# Altium footprint library spin5v1_simple.PcbLib: 34 footprints (part 1 of 4)
Each footprint in its own frame and in the unit in brackets; x right, y up, seen from the top. Pads: shape width x height; smd on the part's side, far side on the other; paste and mask are expansions set on the pad; w line width, h text height; cw(c..) or ccw(c..) is an arc to the next point about the centre after c.
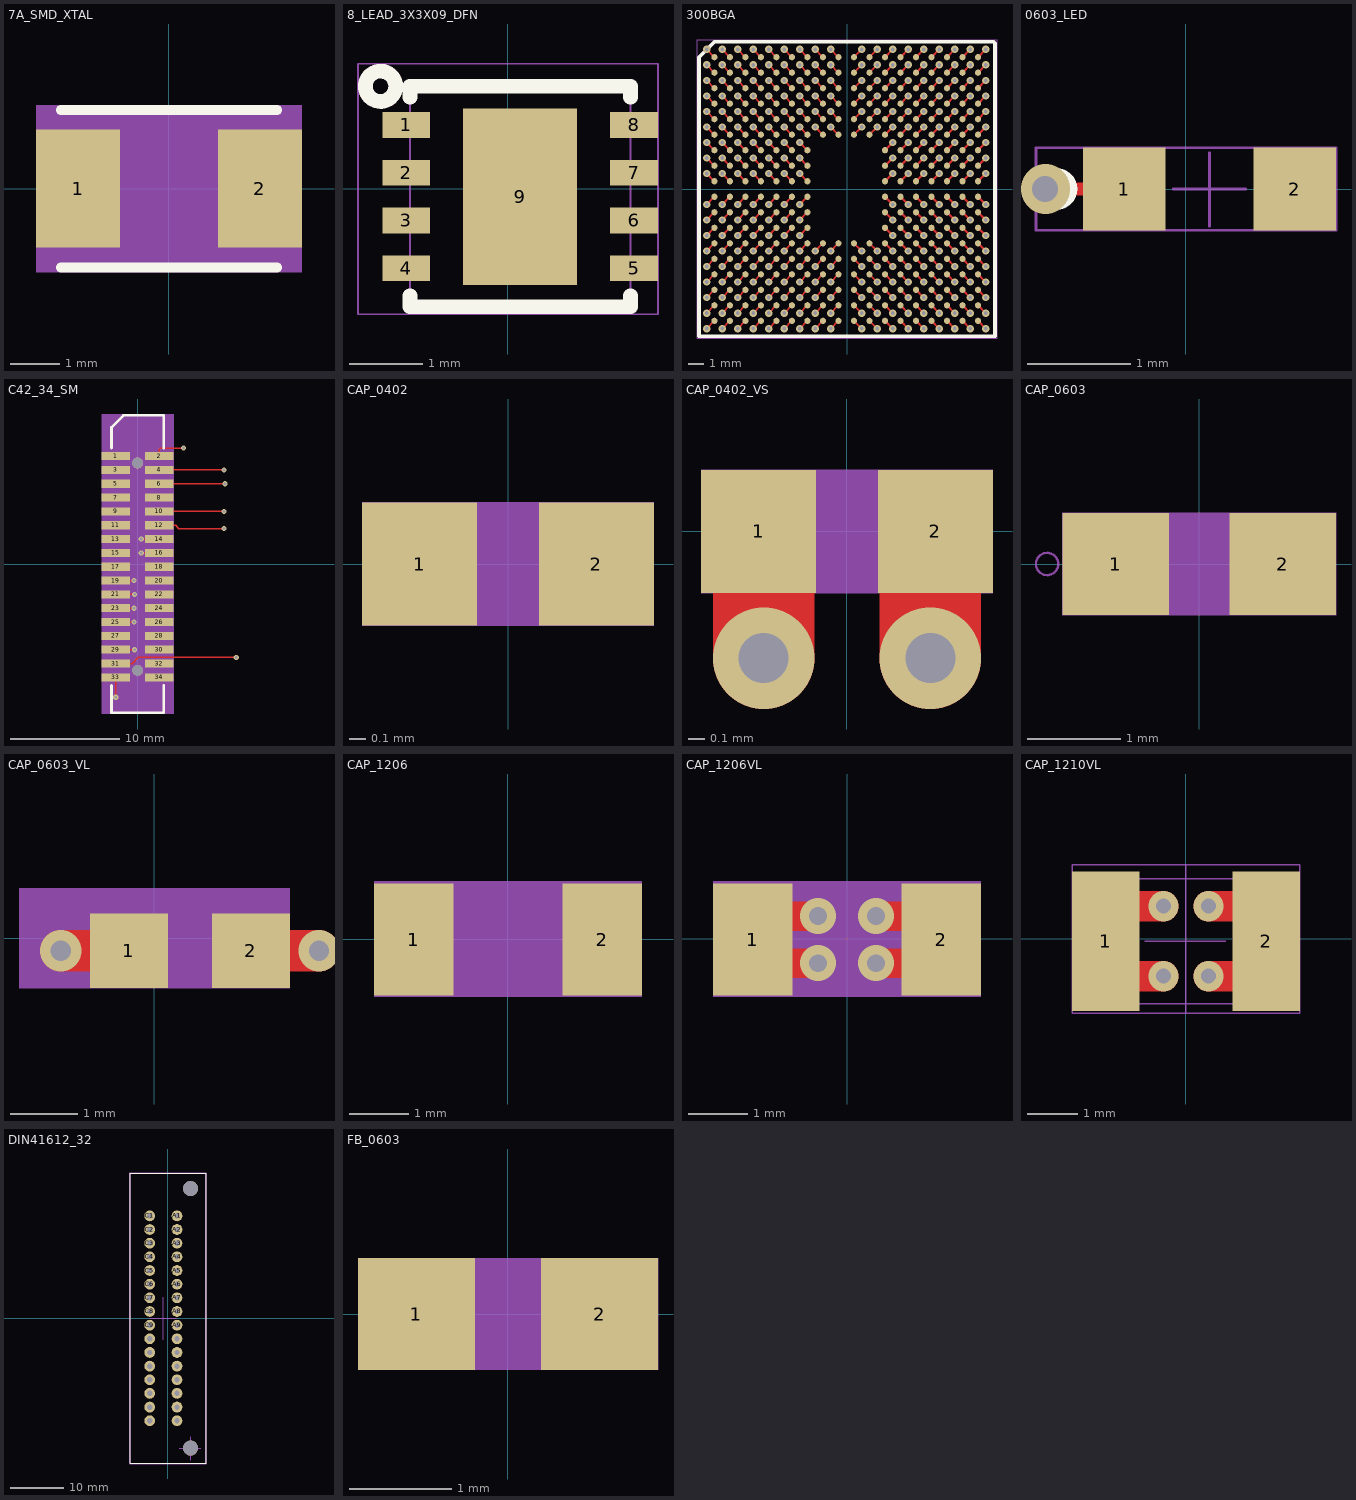
[diagram p0: the footprints below, top view; thin cyan lines are the x and y axes]

## 7A_SMD_XTAL [mm] "7A_SMD_XTAL"
pads (2):
  rect 1.7x2.4 smd: 1(-1.85,0) 2(1.85,0)
Top Overlay:
  lines w0.2: -2.2,-1.6 2.2,-1.6 ; -2.2,1.6 2.2,1.6
Mechanical 9:
  text "1" at -0.65,-0.64 h0.8
  text "2" at 0.8,-0.64 h0.8
Mechanical 13:
  lines w0.025: -0.88,0 0.84,0 ; 0,-0.72 0,0.83 ; -2.5,-1.399 cw(c-2.488,-1.588) -2.299,-1.6 2.3,-1.6 cw(c2.488,-1.588) 2.5,-1.399 2.5,1.4 cw(c2.482,1.582) 2.3,1.6 -2.3,1.6 cw(c-2.474,1.574) -2.5,1.4 -2.5,-1.4
  text ".Designator" at -0.5,0 h0.8
Mechanical 14:
  region: -2.7,-1.7 2.7,-1.7 2.7,1.7 -2.7,1.7
3D body: height 0.91, standoff -0.01, extent -1.6,-1.25 1.6,1.25

## 8_LEAD_3X3X09_DFN [mm] "8_LEAD_3X3X09_DFN"
pads (9):
  rect 0.65x0.35 smd: 1(-1.384,0.872) 2(-1.384,0.222) 3(-1.384,-0.428) 4(-1.384,-1.078) 5(1.716,-1.078) 6(1.716,-0.428) 7(1.716,0.222) 8(1.716,0.872)
  rect 1.55x2.4 smd: 9(0.166,-0.103)
Top Overlay:
  circle w0.2: c-1.734,1.397 r0.206
  lines w0.2: -1.334,-1.453 -1.334,-1.603 1.666,-1.603 1.666,-1.453 ; -1.334,1.247 -1.334,1.397 1.666,1.397 1.666,1.247
  text ".Designator" at 2.666,1.397 h1.6
Mechanical 9:
  text "7" at 2.303,0.422 h0.64
  text "8" at 2.283,1.082 h0.64
  text "3" at -2.337,-0.223 h0.64
  text "6" at 2.303,-0.243 h0.64
  text "5" at 2.313,-0.863 h0.64
  text "2" at -2.342,0.437 h0.64
  text "1" at -2.342,1.062 h0.64
  text "4" at -2.332,-0.878 h0.64
  text "9" at -0.342,-1.373 h0.64
Mechanical 13:
  circle w0.025: c-1.734,1.397 r0.292
  lines w0.025: -1.334,-1.603 1.666,-1.603 1.666,1.397 -1.334,1.397 -1.334,-1.603
Mechanical 14:
  lines w0.025: -2.04,-1.703 2.041,-1.703 2.041,1.703 -2.04,1.703 -2.04,-1.703
3D body: height 0.8, standoff 0, extent -1.27,-1.651 1.75,1.349

## 300BGA [mm] "300BGA"
pads (300):
  round 0.4 smd: A1(-8.55,8.5) A2(-7.55,8.5) A3(-6.55,8.5) A4(-5.55,8.5) A5(-4.55,8.5) A6(-3.55,8.5) A7(-2.55,8.5) A8(-1.55,8.5) A9(-0.55,8.5) A10(0.45,8.5) A11(1.45,8.5) A12(2.45,8.5) A13(3.45,8.5) A14(4.45,8.5) A15(5.45,8.5) A16(6.45,8.5) A17(7.45,8.5) A18(8.45,8.5) B1(-8.55,7.5) B2(-7.55,7.5) B3(-6.55,7.5) B4(-5.55,7.5) B5(-4.55,7.5) B6(-3.55,7.5) B7(-2.55,7.5) B8(-1.55,7.5) B9(-0.55,7.5) B10(0.45,7.5) B11(1.45,7.5) B12(2.45,7.5) B13(3.45,7.5) B14(4.45,7.5) B15(5.45,7.5) B16(6.45,7.5) B17(7.45,7.5) B18(8.45,7.5) C1(-8.55,6.5) C2(-7.55,6.5) C3(-6.55,6.5) C4(-5.55,6.5) C5(-4.55,6.5) C6(-3.55,6.5) C7(-2.55,6.5) C8(-1.55,6.5) C9(-0.55,6.5) C10(0.45,6.5) C11(1.45,6.5) C12(2.45,6.5) C13(3.45,6.5) C14(4.45,6.5) C15(5.45,6.5) C16(6.45,6.5) C17(7.45,6.5) C18(8.45,6.5) D1(-8.55,5.5) D2(-7.55,5.5) D3(-6.55,5.5) D4(-5.55,5.5) D5(-4.55,5.5) D6(-3.55,5.5) D7(-2.55,5.5) D8(-1.55,5.5) D9(-0.55,5.5) D10(0.45,5.5) D11(1.45,5.5) D12(2.45,5.5) D13(3.45,5.5) D14(4.45,5.5) D15(5.45,5.5) D16(6.45,5.5) D17(7.45,5.5) D18(8.45,5.5) E1(-8.55,4.5) E2(-7.55,4.5) E3(-6.55,4.5) E4(-5.55,4.5) E5(-4.55,4.5) E6(-3.55,4.5) E7(-2.55,4.5) E8(-1.55,4.5) E9(-0.55,4.5) E10(0.45,4.5) E11(1.45,4.5) E12(2.45,4.5) E13(3.45,4.5) E14(4.45,4.5) E15(5.45,4.5) E16(6.45,4.5) E17(7.45,4.5) E18(8.45,4.5) F1(-8.55,3.5) F2(-7.55,3.5) F3(-6.55,3.5) F4(-5.55,3.5) F5(-4.55,3.5) F6(-3.55,3.5) F7(-2.55,3.5) F8(-1.55,3.5) F9(-0.55,3.5) F10(0.45,3.5) F11(1.45,3.5) F12(2.45,3.5) F13(3.45,3.5) F14(4.45,3.5) F15(5.45,3.5) F16(6.45,3.5) F17(7.45,3.5) F18(8.45,3.5) G1(-8.55,2.5) G2(-7.55,2.5) G3(-6.55,2.5) G4(-5.55,2.5) G5(-4.55,2.5) G6(-3.55,2.5) G7(-2.55,2.5) G12(2.45,2.5) G13(3.45,2.5) G14(4.45,2.5) G15(5.45,2.5) G16(6.45,2.5) G17(7.45,2.5) G18(8.45,2.5) H1(-8.55,1.5) H2(-7.55,1.5) H3(-6.55,1.5) H4(-5.55,1.5) H5(-4.55,1.5) H6(-3.55,1.5) H7(-2.55,1.5) H12(2.45,1.5) H13(3.45,1.5) H14(4.45,1.5) H15(5.45,1.5) H16(6.45,1.5) H17(7.45,1.5) H18(8.45,1.5) J1(-8.55,0.5) J2(-7.55,0.5) J3(-6.55,0.5) J4(-5.55,0.5) J5(-4.55,0.5) J6(-3.55,0.5) J7(-2.55,0.5) J12(2.45,0.5) J13(3.45,0.5) J14(4.45,0.5) J15(5.45,0.5) J16(6.45,0.5) J17(7.45,0.5) J18(8.45,0.5) K1(-8.55,-0.5) K2(-7.55,-0.5) K3(-6.55,-0.5) K4(-5.55,-0.5) K5(-4.55,-0.5) K6(-3.55,-0.5) K7(-2.55,-0.5) K12(2.45,-0.5) K13(3.45,-0.5) K14(4.45,-0.5) K15(5.45,-0.5) K16(6.45,-0.5) K17(7.45,-0.5) K18(8.45,-0.5) L1(-8.55,-1.5) L2(-7.55,-1.5) L3(-6.55,-1.5) L4(-5.55,-1.5) L5(-4.55,-1.5) L6(-3.55,-1.5) L7(-2.55,-1.5) L12(2.45,-1.5) L13(3.45,-1.5) L14(4.45,-1.5) L15(5.45,-1.5) L16(6.45,-1.5) L17(7.45,-1.5) L18(8.45,-1.5) M1(-8.55,-2.5) M2(-7.55,-2.5) M3(-6.55,-2.5) M4(-5.55,-2.5) M5(-4.55,-2.5) M6(-3.55,-2.5) M7(-2.55,-2.5) M12(2.45,-2.5) M13(3.45,-2.5) M14(4.45,-2.5) M15(5.45,-2.5) M16(6.45,-2.5) M17(7.45,-2.5) M18(8.45,-2.5) N1(-8.55,-3.5) N2(-7.55,-3.5) N3(-6.55,-3.5) N4(-5.55,-3.5) N5(-4.55,-3.5) N6(-3.55,-3.5) N7(-2.55,-3.5) N8(-1.55,-3.5) N9(-0.55,-3.5) N10(0.45,-3.5) N11(1.45,-3.5) N12(2.45,-3.5) N13(3.45,-3.5) N14(4.45,-3.5) N15(5.45,-3.5) N16(6.45,-3.5) N17(7.45,-3.5) N18(8.45,-3.5) P1(-8.55,-4.5) P2(-7.55,-4.5) P3(-6.55,-4.5) P4(-5.55,-4.5) P5(-4.55,-4.5) P6(-3.55,-4.5) P7(-2.55,-4.5) P8(-1.55,-4.5) P9(-0.55,-4.5) P10(0.45,-4.5) P11(1.45,-4.5) P12(2.45,-4.5) P13(3.45,-4.5) P14(4.45,-4.5) P15(5.45,-4.5) P16(6.45,-4.5) P17(7.45,-4.5) P18(8.45,-4.5) R1(-8.55,-5.5) R2(-7.55,-5.5) R3(-6.55,-5.5) R4(-5.55,-5.5) R5(-4.55,-5.5) R6(-3.55,-5.5) R7(-2.55,-5.5) R8(-1.55,-5.5) R9(-0.55,-5.5) R10(0.45,-5.5) R11(1.45,-5.5) R12(2.45,-5.5) R13(3.45,-5.5) R14(4.45,-5.5) R15(5.45,-5.5) R16(6.45,-5.5) R17(7.45,-5.5) R18(8.45,-5.5) T1(-8.55,-6.5) T2(-7.55,-6.5) T3(-6.55,-6.5) T4(-5.55,-6.5) T5(-4.55,-6.5) T6(-3.55,-6.5) T7(-2.55,-6.5) T8(-1.55,-6.5) T9(-0.55,-6.5) T10(0.45,-6.5) T11(1.45,-6.5) T12(2.45,-6.5) T13(3.45,-6.5) T14(4.45,-6.5) T15(5.45,-6.5) T16(6.45,-6.5) T17(7.45,-6.5) T18(8.45,-6.5) U1(-8.55,-7.5) U2(-7.55,-7.5) U3(-6.55,-7.5) U4(-5.55,-7.5) U5(-4.55,-7.5) U6(-3.55,-7.5) U7(-2.55,-7.5) U8(-1.55,-7.5) U9(-0.55,-7.5) U10(0.45,-7.5) U11(1.45,-7.5) U12(2.45,-7.5) U13(3.45,-7.5) U14(4.45,-7.5) U15(5.45,-7.5) U16(6.45,-7.5) U17(7.45,-7.5) U18(8.45,-7.5) V1(-8.55,-8.5) V2(-7.55,-8.5) V3(-6.55,-8.5) V4(-5.55,-8.5) V5(-4.55,-8.5) V6(-3.55,-8.5) V7(-2.55,-8.5) V8(-1.55,-8.5) V9(-0.55,-8.5) V10(0.45,-8.5) V11(1.45,-8.5) V12(2.45,-8.5) V13(3.45,-8.5) V14(4.45,-8.5) V15(5.45,-8.5) V16(6.45,-8.5) V17(7.45,-8.5) V18(8.45,-8.5)
via -8.05,-1 diameter 0.48 hole 0.25
via -7.05,2 diameter 0.48 hole 0.25
via -7.05,-1 diameter 0.48 hole 0.25
via -6.05,2 diameter 0.48 hole 0.25
via -9.05,-1 diameter 0.48 hole 0.25
via -6.05,-2 diameter 0.48 hole 0.25
via -7.05,3 diameter 0.48 hole 0.25
via -7.05,-2 diameter 0.48 hole 0.25
via -6.05,3 diameter 0.48 hole 0.25
via -8.05,-2 diameter 0.48 hole 0.25
via -9.05,2 diameter 0.48 hole 0.25
via -9.05,-2 diameter 0.48 hole 0.25
via -8.05,2 diameter 0.48 hole 0.25
via -6.05,-1 diameter 0.48 hole 0.25
via -8.05,3 diameter 0.48 hole 0.25
via -9.05,3 diameter 0.48 hole 0.25
via -8.05,-3 diameter 0.48 hole 0.25
via -8.05,1 diameter 0.48 hole 0.25
via -9.05,1 diameter 0.48 hole 0.25
via -6.05,-3 diameter 0.48 hole 0.25
via -7.05,1 diameter 0.48 hole 0.25
via -6.05,1 diameter 0.48 hole 0.25
via -8.05,6 diameter 0.48 hole 0.25
via -6.05,4 diameter 0.48 hole 0.25
via -9.05,-4 diameter 0.48 hole 0.25
via -7.05,-6 diameter 0.48 hole 0.25
via -9.05,9 diameter 0.48 hole 0.25
via -9.05,5 diameter 0.48 hole 0.25
via -8.05,5 diameter 0.48 hole 0.25
via -7.05,5 diameter 0.48 hole 0.25
via -6.05,5 diameter 0.48 hole 0.25
via -9.05,4 diameter 0.48 hole 0.25
via -8.05,4 diameter 0.48 hole 0.25
via -7.05,-4 diameter 0.48 hole 0.25
via -6.05,-4 diameter 0.48 hole 0.25
via -9.05,-5 diameter 0.48 hole 0.25
via -8.05,-5 diameter 0.48 hole 0.25
via -8.05,9 diameter 0.48 hole 0.25
via -7.05,-5 diameter 0.48 hole 0.25
via -6.05,-5 diameter 0.48 hole 0.25
via -9.05,-6 diameter 0.48 hole 0.25
via -8.05,-6 diameter 0.48 hole 0.25
via -9.05,-7 diameter 0.48 hole 0.25
via -8.05,-7 diameter 0.48 hole 0.25
via -7.05,-7 diameter 0.48 hole 0.25
via -9.05,-8 diameter 0.48 hole 0.25
via -8.05,-8 diameter 0.48 hole 0.25
via -7.05,-8 diameter 0.48 hole 0.25
via -9.05,8 diameter 0.48 hole 0.25
via -9.05,-9 diameter 0.48 hole 0.25
via -8.05,-9 diameter 0.48 hole 0.25
via -8.05,8 diameter 0.48 hole 0.25
via -7.05,8 diameter 0.48 hole 0.25
via -9.05,7 diameter 0.48 hole 0.25
via -8.05,7 diameter 0.48 hole 0.25
via -7.05,7 diameter 0.48 hole 0.25
via -7.05,6 diameter 0.48 hole 0.25
via -6.05,6 diameter 0.48 hole 0.25
via -9.05,6 diameter 0.48 hole 0.25
via -7.05,4 diameter 0.48 hole 0.25
via -8.05,-4 diameter 0.48 hole 0.25
via -6.05,-6 diameter 0.48 hole 0.25
via -9.05,-3 diameter 0.48 hole 0.25
via -7.05,-3 diameter 0.48 hole 0.25
via 6.95,-8 diameter 0.48 hole 0.25
via 7.95,-9 diameter 0.48 hole 0.25
via 5.95,6 diameter 0.48 hole 0.25
via 5.95,5 diameter 0.48 hole 0.25
via 5.95,4 diameter 0.48 hole 0.25
via 5.95,1 diameter 0.48 hole 0.25
via 5.95,-5 diameter 0.48 hole 0.25
via 5.95,-6 diameter 0.48 hole 0.25
via 8.95,3 diameter 0.48 hole 0.25
via 5.95,-3 diameter 0.48 hole 0.25
via 7.95,3 diameter 0.48 hole 0.25
via 5.95,3 diameter 0.48 hole 0.25
via -4.05,2 diameter 0.48 hole 0.25
via -4.05,-1 diameter 0.48 hole 0.25
via -4.05,-3 diameter 0.48 hole 0.25
via -4.05,-4 diameter 0.48 hole 0.25
via 0.95,-4 diameter 0.48 hole 0.25
via 0.95,-5 diameter 0.48 hole 0.25
via -2.05,-5 diameter 0.48 hole 0.25
via -2.05,-4 diameter 0.48 hole 0.25
via -3.05,-5 diameter 0.48 hole 0.25
via -3.05,-4 diameter 0.48 hole 0.25
via -3.05,2 diameter 0.48 hole 0.25
via -5.05,2 diameter 0.48 hole 0.25
via -3.05,-1 diameter 0.48 hole 0.25
via -5.05,-1 diameter 0.48 hole 0.25
via -3.05,-3 diameter 0.48 hole 0.25
via -5.05,-3 diameter 0.48 hole 0.25
via -5.05,-4 diameter 0.48 hole 0.25
via -5.05,-5 diameter 0.48 hole 0.25
via 3.95,5 diameter 0.48 hole 0.25
via 2.95,5 diameter 0.48 hole 0.25
via 2.95,4 diameter 0.48 hole 0.25
via 1.95,5 diameter 0.48 hole 0.25
via 1.95,4 diameter 0.48 hole 0.25
via -1.05,4 diameter 0.48 hole 0.25
via -1.05,5 diameter 0.48 hole 0.25
via 4.95,5 diameter 0.48 hole 0.25
via 4.95,4 diameter 0.48 hole 0.25
via 3.95,4 diameter 0.48 hole 0.25
via 4.95,3 diameter 0.48 hole 0.25
via 3.95,3 diameter 0.48 hole 0.25
via 2.95,3 diameter 0.48 hole 0.25
via 8.95,2 diameter 0.48 hole 0.25
via 7.95,2 diameter 0.48 hole 0.25
via 4.95,1 diameter 0.48 hole 0.25
via 3.95,1 diameter 0.48 hole 0.25
via 2.95,1 diameter 0.48 hole 0.25
via 8.95,-2 diameter 0.48 hole 0.25
via 7.95,-2 diameter 0.48 hole 0.25
via 4.95,-2 diameter 0.48 hole 0.25
via 3.95,-2 diameter 0.48 hole 0.25
via 2.95,-2 diameter 0.48 hole 0.25
via 7.95,5 diameter 0.48 hole 0.25
via 6.95,5 diameter 0.48 hole 0.25
via 8.95,6 diameter 0.48 hole 0.25
via 7.95,6 diameter 0.48 hole 0.25
via 8.95,4 diameter 0.48 hole 0.25
via 7.95,4 diameter 0.48 hole 0.25
via 5.95,2 diameter 0.48 hole 0.25
via 6.95,2 diameter 0.48 hole 0.25
via 7.95,8 diameter 0.48 hole 0.25
via 1.95,-6 diameter 0.48 hole 0.25
via -2.05,-8 diameter 0.48 hole 0.25
via -2.05,-7 diameter 0.48 hole 0.25
via -2.05,-6 diameter 0.48 hole 0.25
via -1.05,-9 diameter 0.48 hole 0.25
via -1.05,-8 diameter 0.48 hole 0.25
via -1.05,-7 diameter 0.48 hole 0.25
via 0.95,-9 diameter 0.48 hole 0.25
via 0.95,-8 diameter 0.48 hole 0.25
via 0.95,-7 diameter 0.48 hole 0.25
via 0.95,-6 diameter 0.48 hole 0.25
via 1.95,-9 diameter 0.48 hole 0.25
via 1.95,-8 diameter 0.48 hole 0.25
via 1.95,-7 diameter 0.48 hole 0.25
via -1.05,-6 diameter 0.48 hole 0.25
via -2.05,-9 diameter 0.48 hole 0.25
via 6.95,-9 diameter 0.48 hole 0.25
via 2.95,-8 diameter 0.48 hole 0.25
via 2.95,-7 diameter 0.48 hole 0.25
via 2.95,-6 diameter 0.48 hole 0.25
via 3.95,-9 diameter 0.48 hole 0.25
via 3.95,-8 diameter 0.48 hole 0.25
via 3.95,-7 diameter 0.48 hole 0.25
via 4.95,-9 diameter 0.48 hole 0.25
via 4.95,-8 diameter 0.48 hole 0.25
via 4.95,-7 diameter 0.48 hole 0.25
via 4.95,-6 diameter 0.48 hole 0.25
via 5.95,-9 diameter 0.48 hole 0.25
via 5.95,-8 diameter 0.48 hole 0.25
via 5.95,-7 diameter 0.48 hole 0.25
via 3.95,-6 diameter 0.48 hole 0.25
via 2.95,-9 diameter 0.48 hole 0.25
via 6.95,-6 diameter 0.48 hole 0.25
via 8.95,-6 diameter 0.48 hole 0.25
via 6.95,-7 diameter 0.48 hole 0.25
via 7.95,-7 diameter 0.48 hole 0.25
via 8.95,-7 diameter 0.48 hole 0.25
via 7.95,-8 diameter 0.48 hole 0.25
via 8.95,-8 diameter 0.48 hole 0.25
via 5.95,-4 diameter 0.48 hole 0.25
via 6.95,-4 diameter 0.48 hole 0.25
via 7.95,-4 diameter 0.48 hole 0.25
via 8.95,-4 diameter 0.48 hole 0.25
via 6.95,-5 diameter 0.48 hole 0.25
via 7.95,-5 diameter 0.48 hole 0.25
via 8.95,-5 diameter 0.48 hole 0.25
via 8.95,-9 diameter 0.48 hole 0.25
via 7.95,-6 diameter 0.48 hole 0.25
via 1.95,6 diameter 0.48 hole 0.25
via -2.05,8 diameter 0.48 hole 0.25
via -2.05,7 diameter 0.48 hole 0.25
via -2.05,6 diameter 0.48 hole 0.25
via -1.05,9 diameter 0.48 hole 0.25
via -1.05,8 diameter 0.48 hole 0.25
via -1.05,7 diameter 0.48 hole 0.25
via 0.95,9 diameter 0.48 hole 0.25
via 0.95,8 diameter 0.48 hole 0.25
via 0.95,7 diameter 0.48 hole 0.25
via 0.95,6 diameter 0.48 hole 0.25
via 1.95,9 diameter 0.48 hole 0.25
via 1.95,8 diameter 0.48 hole 0.25
via 1.95,7 diameter 0.48 hole 0.25
via -1.05,6 diameter 0.48 hole 0.25
via -2.05,9 diameter 0.48 hole 0.25
via -3.05,6 diameter 0.48 hole 0.25
via -6.05,9 diameter 0.48 hole 0.25
via -6.05,8 diameter 0.48 hole 0.25
via -6.05,7 diameter 0.48 hole 0.25
via -5.05,9 diameter 0.48 hole 0.25
via -5.05,8 diameter 0.48 hole 0.25
via -5.05,7 diameter 0.48 hole 0.25
via -4.05,9 diameter 0.48 hole 0.25
via -4.05,8 diameter 0.48 hole 0.25
via -4.05,7 diameter 0.48 hole 0.25
via -4.05,6 diameter 0.48 hole 0.25
via -3.05,9 diameter 0.48 hole 0.25
via -3.05,8 diameter 0.48 hole 0.25
via -3.05,7 diameter 0.48 hole 0.25
via -5.05,6 diameter 0.48 hole 0.25
via -7.05,9 diameter 0.48 hole 0.25
via -5.05,-6 diameter 0.48 hole 0.25
via -4.05,-8 diameter 0.48 hole 0.25
via -4.05,-7 diameter 0.48 hole 0.25
via -4.05,-6 diameter 0.48 hole 0.25
via -3.05,-9 diameter 0.48 hole 0.25
via -3.05,-8 diameter 0.48 hole 0.25
via -3.05,-7 diameter 0.48 hole 0.25
via -7.05,-9 diameter 0.48 hole 0.25
via -6.05,-9 diameter 0.48 hole 0.25
via -6.05,-8 diameter 0.48 hole 0.25
via -6.05,-7 diameter 0.48 hole 0.25
via -5.05,-9 diameter 0.48 hole 0.25
via -5.05,-8 diameter 0.48 hole 0.25
via -5.05,-7 diameter 0.48 hole 0.25
via -3.05,-6 diameter 0.48 hole 0.25
via -4.05,-9 diameter 0.48 hole 0.25
via 3.95,7 diameter 0.48 hole 0.25
via -4.05,1 diameter 0.48 hole 0.25
via -1.05,-5 diameter 0.48 hole 0.25
via -1.05,-4 diameter 0.48 hole 0.25
via -3.05,1 diameter 0.48 hole 0.25
via -5.05,1 diameter 0.48 hole 0.25
via 0.95,4 diameter 0.48 hole 0.25
via 0.95,5 diameter 0.48 hole 0.25
via 4.95,-1 diameter 0.48 hole 0.25
via 3.95,-1 diameter 0.48 hole 0.25
via 2.95,-1 diameter 0.48 hole 0.25
via -4.05,4 diameter 0.48 hole 0.25
via -4.05,3 diameter 0.48 hole 0.25
via -4.05,-2 diameter 0.48 hole 0.25
via -4.05,5 diameter 0.48 hole 0.25
via 3.95,-5 diameter 0.48 hole 0.25
via 2.95,-4 diameter 0.48 hole 0.25
via 2.95,-5 diameter 0.48 hole 0.25
via 1.95,-4 diameter 0.48 hole 0.25
via 1.95,-5 diameter 0.48 hole 0.25
via -5.05,5 diameter 0.48 hole 0.25
via -5.05,4 diameter 0.48 hole 0.25
via -5.05,3 diameter 0.48 hole 0.25
via -3.05,3 diameter 0.48 hole 0.25
via -3.05,-2 diameter 0.48 hole 0.25
via -5.05,-2 diameter 0.48 hole 0.25
via 2.95,6 diameter 0.48 hole 0.25
via -2.05,4 diameter 0.48 hole 0.25
via -2.05,5 diameter 0.48 hole 0.25
via -3.05,4 diameter 0.48 hole 0.25
via -3.05,5 diameter 0.48 hole 0.25
via 4.95,2 diameter 0.48 hole 0.25
via 3.95,2 diameter 0.48 hole 0.25
via 2.95,2 diameter 0.48 hole 0.25
via 4.95,-3 diameter 0.48 hole 0.25
via 3.95,-3 diameter 0.48 hole 0.25
via 2.95,-3 diameter 0.48 hole 0.25
via 4.95,-4 diameter 0.48 hole 0.25
via 3.95,-4 diameter 0.48 hole 0.25
via 4.95,-5 diameter 0.48 hole 0.25
via 6.95,-3 diameter 0.48 hole 0.25
via 6.95,4 diameter 0.48 hole 0.25
via 8.95,5 diameter 0.48 hole 0.25
via 6.95,-1 diameter 0.48 hole 0.25
via 5.95,-1 diameter 0.48 hole 0.25
via 3.95,6 diameter 0.48 hole 0.25
via 2.95,9 diameter 0.48 hole 0.25
via 6.95,6 diameter 0.48 hole 0.25
via 2.95,7 diameter 0.48 hole 0.25
via 2.95,8 diameter 0.48 hole 0.25
via 8.95,9 diameter 0.48 hole 0.25
via 7.95,9 diameter 0.48 hole 0.25
via 6.95,9 diameter 0.48 hole 0.25
via 6.95,8 diameter 0.48 hole 0.25
via 5.95,9 diameter 0.48 hole 0.25
via 5.95,8 diameter 0.48 hole 0.25
via 5.95,7 diameter 0.48 hole 0.25
via 6.95,-2 diameter 0.48 hole 0.25
via 5.95,-2 diameter 0.48 hole 0.25
via 8.95,-1 diameter 0.48 hole 0.25
via 7.95,-1 diameter 0.48 hole 0.25
via 8.95,7 diameter 0.48 hole 0.25
via 6.95,7 diameter 0.48 hole 0.25
via 7.95,7 diameter 0.48 hole 0.25
via 6.95,1 diameter 0.48 hole 0.25
via 4.95,9 diameter 0.48 hole 0.25
via 4.95,8 diameter 0.48 hole 0.25
via 4.95,7 diameter 0.48 hole 0.25
via 4.95,6 diameter 0.48 hole 0.25
via 3.95,9 diameter 0.48 hole 0.25
via 3.95,8 diameter 0.48 hole 0.25
via 6.95,3 diameter 0.48 hole 0.25
via 8.95,8 diameter 0.48 hole 0.25
via 7.95,1 diameter 0.48 hole 0.25
via 7.95,-3 diameter 0.48 hole 0.25
via 8.95,-3 diameter 0.48 hole 0.25
via 8.95,1 diameter 0.48 hole 0.25
via -4.05,-5 diameter 0.48 hole 0.25
Top Layer:
  lines w0.127: -9.05,-9 -8.55,-8.5 ; -9.05,-8 -8.55,-7.5 ; -9.05,-7 -8.55,-6.5 ; -9.05,-6 -8.55,-5.5 ; -9.05,-5 -8.55,-4.5 ; -9.05,-4 -8.55,-3.5 ; -9.05,-3 -8.55,-2.5 ; -9.05,-2 -8.55,-1.5 ; -9.05,-1 -8.55,-0.5 ; -9.05,1 -8.55,0.5 ; -9.05,2 -8.55,1.5 ; -9.05,3 -8.55,2.5 ; -9.05,4 -8.55,3.5 ; -9.05,5 -8.55,4.5 ; -9.05,6 -8.55,5.5 ; -9.05,7 -8.55,6.5 ; -9.05,8 -8.55,7.5 ; -9.05,9 -8.55,8.5 ; -8.05,-9 -7.55,-8.5 ; -8.05,-8 -7.55,-7.5 ; -8.05,-7 -7.55,-6.5 ; -8.05,-6 -7.55,-5.5 ; -8.05,-5 -7.55,-4.5 ; -8.05,-4 -7.55,-3.5 ; -8.05,-3 -7.55,-2.5 ; -8.05,-2 -7.55,-1.5 ; -8.05,-1 -7.55,-0.5 ; -8.05,1 -7.55,0.5 ; -8.05,2 -7.55,1.5 ; -8.05,3 -7.55,2.5 ; -8.05,4 -7.55,3.5 ; -8.05,5 -7.55,4.5 ; -8.05,6 -7.55,5.5 ; -8.05,7 -7.55,6.5 ; -8.05,8 -7.55,7.5 ; -8.05,9 -7.55,8.5 ; -7.05,-9 -6.55,-8.5 ; -7.05,-8 -6.55,-7.5 ; -7.05,-7 -6.55,-6.5 ; -7.05,-6 -6.55,-5.5 ; -7.05,-5 -6.55,-4.5 ; -7.05,-4 -6.55,-3.5 ; -7.05,-3 -6.55,-2.5 ; -7.05,-2 -6.55,-1.5 ; -7.05,-1 -6.55,-0.5 ; -7.05,1 -6.55,0.5 ; -7.05,2 -6.55,1.5 ; -7.05,3 -6.55,2.5 ; -7.05,4 -6.55,3.5 ; -7.05,5 -6.55,4.5 ; -7.05,6 -6.55,5.5 ; -7.05,7 -6.55,6.5 ; -7.05,8 -6.55,7.5 ; -7.05,9 -6.55,8.5 ; -6.05,-9 -5.55,-8.5 ; -6.05,-8 -5.55,-7.5 ; -6.05,-7 -5.55,-6.5 ; -6.05,-6 -5.55,-5.5 ; -6.05,-5 -5.55,-4.5 ; -6.05,-4 -5.55,-3.5 ; -6.05,-3 -5.55,-2.5 ; -6.05,-2 -5.55,-1.5 ; -6.05,-1 -5.55,-0.5 ; -6.05,1 -5.55,0.5 ; -6.05,2 -5.55,1.5 ; -6.05,3 -5.55,2.5 ; -6.05,4 -5.55,3.5 ; -6.05,5 -5.55,4.5 ; -6.05,6 -5.55,5.5 ; -6.05,7 -5.55,6.5 ; -6.05,8 -5.55,7.5 ; -6.05,9 -5.55,8.5 ; -5.05,-9 -4.55,-8.5 ; -5.05,-8 -4.55,-7.5 ; -5.05,-7 -4.55,-6.5 ; -5.05,-6 -4.55,-5.5 ; -5.05,-5 -4.55,-4.5 ; -5.05,-4 -4.55,-3.5 ; -5.05,-3 -4.55,-2.5 ; -5.05,-2 -4.55,-1.5 ; -5.05,-1 -4.55,-0.5 ; -5.05,1 -4.55,0.5 ; -5.05,2 -4.55,1.5 ; -5.05,3 -4.55,2.5 ; -5.05,4 -4.55,3.5 ; -5.05,5 -4.55,4.5 ; -5.05,6 -4.55,5.5 ; -5.05,7 -4.55,6.5 ; -5.05,8 -4.55,7.5 ; -5.05,9 -4.55,8.5 ; -4.05,-9 -3.55,-8.5 ; -4.05,-8 -3.55,-7.5 ; -4.05,-7 -3.55,-6.5 ; -4.05,-6 -3.55,-5.5 ; -4.05,-5 -3.55,-4.5 ; -4.05,-4 -3.55,-3.5 ; -4.05,-3 -3.55,-2.5 ; -4.05,-2 -3.55,-1.5 ; -4.05,-1 -3.55,-0.5 ; -4.05,1 -3.55,0.5 ; -4.05,2 -3.55,1.5 ; -4.05,3 -3.55,2.5 ; -4.05,4 -3.55,3.5 ; -4.05,5 -3.55,4.5 ; -4.05,6 -3.55,5.5 ; -4.05,7 -3.55,6.5 ; -4.05,8 -3.55,7.5 ; -4.05,9 -3.55,8.5 ; -3.05,-9 -2.55,-8.5 ; -3.05,-8 -2.55,-7.5 ; -3.05,-7 -2.55,-6.5 ; -3.05,-6 -2.55,-5.5 ; -3.05,-5 -2.55,-4.5 ; -3.05,-4 -2.55,-3.5 ; -3.05,-3 -2.55,-2.5 ; -3.05,-2 -2.55,-1.5 ; -3.05,-1 -2.55,-0.5 ; -3.05,1 -2.55,0.5 ; -3.05,2 -2.55,1.5 ; -3.05,3 -2.55,2.5 ; -3.05,4 -2.55,3.5 ; -3.05,5 -2.55,4.5 ; -3.05,6 -2.55,5.5 ; -3.05,7 -2.55,6.5 ; -3.05,8 -2.55,7.5 ; -3.05,9 -2.55,8.5 ; -2.05,-9 -1.55,-8.5 ; -2.05,-8 -1.55,-7.5 ; -2.05,-7 -1.55,-6.5 ; -2.05,-6 -1.55,-5.5 ; -2.05,-5 -1.55,-4.5 ; -2.05,-4 -1.55,-3.5 ; -2.05,4 -1.55,3.5 ; -2.05,5 -1.55,4.5 ; -2.05,6 -1.55,5.5 ; -2.05,7 -1.55,6.5 ; -2.05,8 -1.55,7.5 ; -2.05,9 -1.55,8.5 ; -1.05,-9 -0.55,-8.5 ; -1.05,-8 -0.55,-7.5 ; -1.05,-7 -0.55,-6.5 ; -1.05,-6 -0.55,-5.5 ; -1.05,-5 -0.55,-4.5 ; -1.05,-4 -0.55,-3.5 ; -1.05,4 -0.55,3.5 ; -1.05,5 -0.55,4.5 ; -1.05,6 -0.55,5.5 ; -1.05,7 -0.55,6.5 ; -1.05,8 -0.55,7.5 ; -1.05,9 -0.55,8.5 ; 0.45,-8.5 0.95,-9 ; 0.45,-7.5 0.95,-8 ; 0.45,-6.5 0.95,-7 ; 0.45,-5.5 0.95,-6 ; 0.45,-4.5 0.95,-5 ; 0.45,-3.5 0.95,-4 ; 0.45,3.5 0.95,4 ; 0.45,4.5 0.95,5 ; 0.45,5.5 0.95,6 ; 0.45,6.5 0.95,7 ; 0.45,7.5 0.95,8 ; 0.45,8.5 0.95,9 ; 1.45,-8.5 1.95,-9 ; 1.45,-7.5 1.95,-8 ; 1.45,-6.5 1.95,-7 ; 1.45,-5.5 1.95,-6 ; 1.45,-4.5 1.95,-5 ; 1.45,-3.5 1.95,-4 ; 1.45,3.5 1.95,4 ; 1.45,4.5 1.95,5 ; 1.45,5.5 1.95,6 ; 1.45,6.5 1.95,7 ; 1.45,7.5 1.95,8 ; 1.45,8.5 1.95,9 ; 2.45,-8.5 2.95,-9 ; 2.45,-7.5 2.95,-8 ; 2.45,-6.5 2.95,-7 ; 2.45,-5.5 2.95,-6 ; 2.45,-4.5 2.95,-5 ; 2.45,-3.5 2.95,-4 ; 2.45,-2.5 2.95,-3 ; 2.45,-1.5 2.95,-2 ; 2.45,-0.5 2.95,-1 ; 2.45,0.5 2.95,1 ; 2.45,1.5 2.95,2 ; 2.45,2.5 2.95,3 ; 2.45,3.5 2.95,4 ; 2.45,4.5 2.95,5 ; 2.45,5.5 2.95,6 ; 2.45,6.5 2.95,7 ; 2.45,7.5 2.95,8 ; 2.45,8.5 2.95,9 ; 3.45,-8.5 3.95,-9 ; 3.45,-7.5 3.95,-8 ; 3.45,-6.5 3.95,-7 ; 3.45,-5.5 3.95,-6 ; 3.45,-4.5 3.95,-5 ; 3.45,-3.5 3.95,-4 ; 3.45,-2.5 3.95,-3 ; 3.45,-1.5 3.95,-2 ; 3.45,-0.5 3.95,-1 ; 3.45,0.5 3.95,1 ; 3.45,1.5 3.95,2 ; 3.45,2.5 3.95,3 ; 3.45,3.5 3.95,4 ; 3.45,4.5 3.95,5 ; 3.45,5.5 3.95,6 ; 3.45,6.5 3.95,7 ; 3.45,7.5 3.95,8 ; 3.45,8.5 3.95,9 ; 4.45,-8.5 4.95,-9 ; 4.45,-7.5 4.95,-8 ; 4.45,-6.5 4.95,-7 ; 4.45,-5.5 4.95,-6 ; 4.45,-4.5 4.95,-5 ; 4.45,-3.5 4.95,-4 ; 4.45,-2.5 4.95,-3 ; 4.45,-1.5 4.95,-2 ; 4.45,-0.5 4.95,-1 ; 4.45,0.5 4.95,1 ; 4.45,1.5 4.95,2 ; 4.45,2.5 4.95,3 ; 4.45,3.5 4.95,4 ; 4.45,4.5 4.95,5 ; 4.45,5.5 4.95,6 ; 4.45,6.5 4.95,7 ; 4.45,7.5 4.95,8 ; 4.45,8.5 4.95,9 ; 5.45,-8.5 5.95,-9 ; 5.45,-7.5 5.95,-8 ; 5.45,-6.5 5.95,-7 ; 5.45,-5.5 5.95,-6 ; 5.45,-4.5 5.95,-5 ; 5.45,-3.5 5.95,-4 ; 5.45,-2.5 5.95,-3 ; 5.45,-1.5 5.95,-2 ; 5.45,-0.5 5.95,-1 ; 5.45,0.5 5.95,1 ; 5.45,1.5 5.95,2 ; 5.45,2.5 5.95,3 ; 5.45,3.5 5.95,4 ; 5.45,4.5 5.95,5 ; 5.45,5.5 5.95,6 ; 5.45,6.5 5.95,7 ; 5.45,7.5 5.95,8 ; 5.45,8.5 5.95,9 ; 6.45,-8.5 6.95,-9 ; 6.45,-7.5 6.95,-8 ; 6.45,-6.5 6.95,-7 ; 6.45,-5.5 6.95,-6 ; 6.45,-4.5 6.95,-5 ; 6.45,-3.5 6.95,-4 ; 6.45,-2.5 6.95,-3 ; 6.45,-1.5 6.95,-2 ; 6.45,-0.5 6.95,-1 ; 6.45,0.5 6.95,1 ; 6.45,1.5 6.95,2 ; 6.45,2.5 6.95,3 ; 6.45,3.5 6.95,4 ; 6.45,4.5 6.95,5 ; 6.45,5.5 6.95,6 ; 6.45,6.5 6.95,7 ; 6.45,7.5 6.95,8 ; 6.45,8.5 6.95,9 ; 7.45,-8.5 7.95,-9 ; 7.45,-7.5 7.95,-8 ; 7.45,-6.5 7.95,-7 ; 7.45,-5.5 7.95,-6 ; 7.45,-4.5 7.95,-5 ; 7.45,-3.5 7.95,-4 ; 7.45,-2.5 7.95,-3 ; 7.45,-1.5 7.95,-2 ; 7.45,-0.5 7.95,-1 ; 7.45,0.5 7.95,1 ; 7.45,1.5 7.95,2 ; 7.45,2.5 7.95,3 ; 7.45,3.5 7.95,4 ; 7.45,4.5 7.95,5 ; 7.45,5.5 7.95,6 ; 7.45,6.5 7.95,7 ; 7.45,7.5 7.95,8 ; 7.45,8.5 7.95,9 ; 8.45,-8.5 8.95,-9 ; 8.45,-7.5 8.95,-8 ; 8.45,-6.5 8.95,-7 ; 8.45,-5.5 8.95,-6 ; 8.45,-4.5 8.95,-5 ; 8.45,-3.5 8.95,-4 ; 8.45,-2.5 8.95,-3 ; 8.45,-1.5 8.95,-2 ; 8.45,-0.5 8.95,-1 ; 8.45,0.5 8.95,1 ; 8.45,1.5 8.95,2 ; 8.45,2.5 8.95,3 ; 8.45,3.5 8.95,4 ; 8.45,4.5 8.95,5 ; 8.45,5.5 8.95,6 ; 8.45,6.5 8.95,7 ; 8.45,7.5 8.95,8 ; 8.45,8.5 8.95,9
Top Overlay:
  lines w0.25: -9.55,-9.5 -9.55,8.5 -8.55,9.5 9.45,9.5 9.55,9.4 9.55,-9.5 -9.55,-9.5
Mechanical 9:
  text "K2" at -8.196,-0.5 h0.24
  text "H3" at -7.196,1.5 h0.24
  text "K3" at -7.196,-0.5 h0.24
  text "H4" at -6.196,1.5 h0.24
  text "K1" at -9.426,-0.5 h0.24
  text "L4" at -6.196,-1.5 h0.24
  text "G3" at -7.196,2.5 h0.24
  text "L3" at -7.196,-1.5 h0.24
  text "G4" at -6.196,2.5 h0.24
  text "L2" at -8.196,-1.5 h0.24
  text "H1" at -9.426,1.5 h0.24
  text "L1" at -9.426,-1.5 h0.24
  text "H2" at -8.196,1.5 h0.24
  text "K4" at -6.196,-0.5 h0.24
  text "G2" at -8.196,2.5 h0.24
  text "G1" at -9.426,2.5 h0.24
  text "M2" at -8.196,-2.5 h0.24
  text "J2" at -8.196,0.5 h0.24
  text "J1" at -9.426,0.5 h0.24
  text "M4" at -6.196,-2.5 h0.24
  text "J3" at -7.196,0.5 h0.24
  text "J4" at -6.196,0.5 h0.24
  text "D2" at -8.196,5.5 h0.24
  text "F4" at -6.196,3.5 h0.24
  text "N1" at -9.426,-3.5 h0.24
  text "R3" at -7.196,-5.5 h0.24
  text "A1" at -9.426,8.5 h0.24
  text "E1" at -9.426,4.5 h0.24
  text "E2" at -8.196,4.5 h0.24
  text "E3" at -7.196,4.5 h0.24
  text "E4" at -6.196,4.5 h0.24
  text "F1" at -9.426,3.5 h0.24
  text "F2" at -8.196,3.5 h0.24
  text "N3" at -7.196,-3.5 h0.24
  text "N4" at -6.196,-3.5 h0.24
  text "P1" at -9.426,-4.5 h0.24
  text "P2" at -8.196,-4.5 h0.24
  text "A2" at -8.196,8.5 h0.24
  text "P3" at -7.196,-4.5 h0.24
  text "P4" at -6.196,-4.5 h0.24
  text "R1" at -9.426,-5.5 h0.24
  text "R2" at -8.196,-5.5 h0.24
  text "T1" at -9.426,-6.5 h0.24
  text "T2" at -8.196,-6.5 h0.24
  text "T3" at -7.196,-6.5 h0.24
  text "U1" at -9.426,-7.5 h0.24
  text "U2" at -8.196,-7.5 h0.24
  text "U3" at -7.196,-7.5 h0.24
  text "B1" at -9.426,7.5 h0.24
  text "V1" at -9.426,-8.5 h0.24
  text "V2" at -8.196,-8.5 h0.24
  text "B2" at -8.196,7.5 h0.24
  text "B3" at -7.196,7.5 h0.24
  text "C1" at -9.426,6.5 h0.24
  text "C2" at -8.196,6.5 h0.24
  text "C3" at -7.196,6.5 h0.24
  text "D3" at -7.196,5.5 h0.24
  text "D4" at -6.196,5.5 h0.24
  text "D1" at -9.426,5.5 h0.24
  text "F3" at -7.196,3.5 h0.24
  text "N2" at -8.196,-3.5 h0.24
  text "R4" at -6.196,-5.5 h0.24
  text "M1" at -9.426,-2.5 h0.24
  text "M3" at -7.196,-2.5 h0.24
  text "U16" at 6.116,-7.5 h0.24
  text "V17" at 7.116,-8.5 h0.24
  text "D15" at 5.116,5.5 h0.24
  text "E15" at 5.116,4.5 h0.24
  text "F15" at 5.116,3.5 h0.24
  text "J15" at 5.116,0.5 h0.24
  text "P15" at 5.116,-4.5 h0.24
  text "R15" at 5.116,-5.5 h0.24
  text "G18" at 8.116,2.5 h0.24
  text "M15" at 5.116,-2.5 h0.24
  text "G17" at 7.116,2.5 h0.24
  text "G15" at 5.116,2.5 h0.24
  text "P6" at -4.196,-4.5 h0.24
  text "H6" at -4.196,1.5 h0.24
  text "K6" at -4.196,-0.5 h0.24
  text "M6" at -4.196,-2.5 h0.24
  text "N6" at -4.196,-3.5 h0.24
  text "N10" at -0.114,-3.5 h0.24
  text "P10" at -0.114,-4.5 h0.24
  text "P8" at -2.196,-4.5 h0.24
  text "N8" at -2.196,-3.5 h0.24
  text "P7" at -3.196,-4.5 h0.24
  text "N7" at -3.196,-3.5 h0.24
  text "H7" at -3.196,1.5 h0.24
  text "H5" at -5.196,1.5 h0.24
  text "K7" at -3.196,-0.5 h0.24
  text "K5" at -5.196,-0.5 h0.24
  text "M7" at -3.196,-2.5 h0.24
  text "M5" at -5.196,-2.5 h0.24
  text "N5" at -5.196,-3.5 h0.24
  text "P5" at -5.196,-4.5 h0.24
  text "E13" at 3.116,4.5 h0.24
  text "E12" at 2.116,4.5 h0.24
  text "F12" at 2.116,3.5 h0.24
  text "E11" at 1.116,4.5 h0.24
  text "F11" at 1.116,3.5 h0.24
  text "F9" at -1.196,3.5 h0.24
  text "E9" at -1.196,4.5 h0.24
  text "E14" at 4.116,4.5 h0.24
  text "F14" at 4.116,3.5 h0.24
  text "F13" at 3.116,3.5 h0.24
  text "G14" at 4.116,2.5 h0.24
  text "G13" at 3.116,2.5 h0.24
  text "G12" at 2.116,2.5 h0.24
  text "H18" at 8.116,1.5 h0.24
  text "H17" at 7.116,1.5 h0.24
  text "J14" at 4.116,0.5 h0.24
  text "J13" at 3.116,0.5 h0.24
  text "J12" at 2.116,0.5 h0.24
  text "L18" at 8.116,-1.5 h0.24
  text "L17" at 7.116,-1.5 h0.24
  text "L14" at 4.116,-1.5 h0.24
  text "L13" at 3.116,-1.5 h0.24
  text "L12" at 2.116,-1.5 h0.24
  text "E17" at 7.116,4.5 h0.24
  text "E16" at 6.116,4.5 h0.24
  text "D18" at 8.116,5.5 h0.24
  text "D17" at 7.116,5.5 h0.24
  text "F18" at 8.116,3.5 h0.24
  text "F17" at 7.116,3.5 h0.24
  text "H15" at 5.116,1.5 h0.24
  text "H16" at 6.116,1.5 h0.24
  text "B17" at 7.116,7.5 h0.24
  text "R11" at 1.116,-5.5 h0.24
  text "U8" at -2.196,-7.5 h0.24
  text "T8" at -2.196,-6.5 h0.24
  text "R8" at -2.196,-5.5 h0.24
  text "V9" at -1.196,-8.5 h0.24
  text "U9" at -1.196,-7.5 h0.24
  text "T9" at -1.196,-6.5 h0.24
  text "V10" at -0.114,-8.5 h0.24
  text "U10" at -0.114,-7.5 h0.24
  text "T10" at -0.114,-6.5 h0.24
  text "R10" at -0.114,-5.5 h0.24
  text "V11" at 1.116,-8.5 h0.24
  text "U11" at 1.116,-7.5 h0.24
  text "T11" at 1.116,-6.5 h0.24
  text "R9" at -1.196,-5.5 h0.24
  text "V8" at -2.196,-8.5 h0.24
  text "V16" at 6.116,-8.5 h0.24
  text "U12" at 2.116,-7.5 h0.24
  text "T12" at 2.116,-6.5 h0.24
  text "R12" at 2.116,-5.5 h0.24
  text "V13" at 3.116,-8.5 h0.24
  text "U13" at 3.116,-7.5 h0.24
  text "T13" at 3.116,-6.5 h0.24
  text "V14" at 4.116,-8.5 h0.24
  text "U14" at 4.116,-7.5 h0.24
  text "T14" at 4.116,-6.5 h0.24
  text "R14" at 4.116,-5.5 h0.24
  text "V15" at 5.116,-8.5 h0.24
  text "U15" at 5.116,-7.5 h0.24
  text "T15" at 5.116,-6.5 h0.24
  text "R13" at 3.116,-5.5 h0.24
  text "V12" at 2.116,-8.5 h0.24
  text "R16" at 6.116,-5.5 h0.24
  text "R18" at 8.116,-5.5 h0.24
  text "T16" at 6.116,-6.5 h0.24
  text "T17" at 7.116,-6.5 h0.24
  text "T18" at 8.116,-6.5 h0.24
  text "U17" at 7.116,-7.5 h0.24
  text "U18" at 8.116,-7.5 h0.24
  text "N15" at 5.116,-3.5 h0.24
  text "N16" at 6.116,-3.5 h0.24
  text "N17" at 7.116,-3.5 h0.24
  text "N18" at 8.116,-3.5 h0.24
  text "P16" at 6.116,-4.5 h0.24
  text "P17" at 7.116,-4.5 h0.24
  text "P18" at 8.116,-4.5 h0.24
  text "V18" at 8.116,-8.5 h0.24
  text "R17" at 7.116,-5.5 h0.24
  text "D11" at 1.116,5.5 h0.24
  text "B8" at -2.196,7.5 h0.24
  text "C8" at -2.196,6.5 h0.24
  text "D8" at -2.196,5.5 h0.24
  text "A9" at -1.196,8.5 h0.24
  text "B9" at -1.196,7.5 h0.24
  text "C9" at -1.196,6.5 h0.24
  text "A10" at -0.114,8.5 h0.24
  text "B10" at -0.114,7.5 h0.24
  text "C10" at -0.114,6.5 h0.24
  text "D10" at -0.114,5.5 h0.24
  text "A11" at 1.116,8.5 h0.24
  text "B11" at 1.116,7.5 h0.24
  text "C11" at 1.116,6.5 h0.24
  text "D9" at -1.196,5.5 h0.24
  text "A8" at -2.196,8.5 h0.24
  text "D7" at -3.196,5.5 h0.24
  text "A4" at -6.196,8.5 h0.24
  text "B4" at -6.196,7.5 h0.24
  text "C4" at -6.196,6.5 h0.24
  text "A5" at -5.196,8.5 h0.24
  text "B5" at -5.196,7.5 h0.24
  text "C5" at -5.196,6.5 h0.24
  text "A6" at -4.196,8.5 h0.24
  text "B6" at -4.196,7.5 h0.24
  text "C6" at -4.196,6.5 h0.24
  text "D6" at -4.196,5.5 h0.24
  text "A7" at -3.196,8.5 h0.24
  text "B7" at -3.196,7.5 h0.24
  text "C7" at -3.196,6.5 h0.24
  text "D5" at -5.196,5.5 h0.24
  text "A3" at -7.196,8.5 h0.24
  text "R5" at -5.196,-5.5 h0.24
  text "U6" at -4.196,-7.5 h0.24
  text "T6" at -4.196,-6.5 h0.24
  text "R6" at -4.196,-5.5 h0.24
  text "V7" at -3.196,-8.5 h0.24
  text "U7" at -3.196,-7.5 h0.24
  text "T7" at -3.196,-6.5 h0.24
  text "V3" at -7.196,-8.5 h0.24
  text "V4" at -6.196,-8.5 h0.24
  text "U4" at -6.196,-7.5 h0.24
  text "T4" at -6.196,-6.5 h0.24
  text "V5" at -5.196,-8.5 h0.24
  text "U5" at -5.196,-7.5 h0.24
  text "T5" at -5.196,-6.5 h0.24
  text "R7" at -3.196,-5.5 h0.24
  text "V6" at -4.196,-8.5 h0.24
  text "C13" at 3.116,6.5 h0.24
  text "J6" at -4.196,0.5 h0.24
  text "P9" at -1.196,-4.5 h0.24
  text "N9" at -1.196,-3.5 h0.24
  text "J7" at -3.196,0.5 h0.24
  text "J5" at -5.196,0.5 h0.24
  text "F10" at -0.114,3.5 h0.24
  text "E10" at -0.114,4.5 h0.24
  text "K14" at 4.116,-0.5 h0.24
  text "K13" at 3.116,-0.5 h0.24
  text "K12" at 2.116,-0.5 h0.24
  text "F6" at -4.196,3.5 h0.24
  text "G6" at -4.196,2.5 h0.24
  text "L6" at -4.196,-1.5 h0.24
  text "E6" at -4.196,4.5 h0.24
  text "P13" at 3.116,-4.5 h0.24
  text "N12" at 2.116,-3.5 h0.24
  text "P12" at 2.116,-4.5 h0.24
  text "N11" at 1.116,-3.5 h0.24
  text "P11" at 1.116,-4.5 h0.24
  text "E5" at -5.196,4.5 h0.24
  text "F5" at -5.196,3.5 h0.24
  text "G5" at -5.196,2.5 h0.24
  text "G7" at -3.196,2.5 h0.24
  text "L7" at -3.196,-1.5 h0.24
  text "L5" at -5.196,-1.5 h0.24
  text "D12" at 2.116,5.5 h0.24
  text "F8" at -2.196,3.5 h0.24
  text "E8" at -2.196,4.5 h0.24
  text "F7" at -3.196,3.5 h0.24
  text "E7" at -3.196,4.5 h0.24
  text "H14" at 4.116,1.5 h0.24
  text "H13" at 3.116,1.5 h0.24
  text "H12" at 2.116,1.5 h0.24
  text "M14" at 4.116,-2.5 h0.24
  text "M13" at 3.116,-2.5 h0.24
  text "M12" at 2.116,-2.5 h0.24
  text "N14" at 4.116,-3.5 h0.24
  text "N13" at 3.116,-3.5 h0.24
  text "P14" at 4.116,-4.5 h0.24
  text "M16" at 6.116,-2.5 h0.24
  text "F16" at 6.116,3.5 h0.24
  text "E18" at 8.116,4.5 h0.24
  text "K16" at 6.116,-0.5 h0.24
  text "K15" at 5.116,-0.5 h0.24
  text "D13" at 3.116,5.5 h0.24
  text "A12" at 2.116,8.5 h0.24
  text "D16" at 6.116,5.5 h0.24
  text "C12" at 2.116,6.5 h0.24
  text "B12" at 2.116,7.5 h0.24
  text "A18" at 8.116,8.5 h0.24
  text "A17" at 7.116,8.5 h0.24
  text "A16" at 6.116,8.5 h0.24
  text "B16" at 6.116,7.5 h0.24
  text "A15" at 5.116,8.5 h0.24
  text "B15" at 5.116,7.5 h0.24
  text "C15" at 5.116,6.5 h0.24
  text "L16" at 6.116,-1.5 h0.24
  text "L15" at 5.116,-1.5 h0.24
  text "K18" at 8.116,-0.5 h0.24
  text "K17" at 7.116,-0.5 h0.24
  text "C18" at 8.116,6.5 h0.24
  text "C16" at 6.116,6.5 h0.24
  text "C17" at 7.116,6.5 h0.24
  text "J16" at 6.116,0.5 h0.24
  text "A14" at 4.116,8.5 h0.24
  text "B14" at 4.116,7.5 h0.24
  text "C14" at 4.116,6.5 h0.24
  text "D14" at 4.116,5.5 h0.24
  text "A13" at 3.116,8.5 h0.24
  text "B13" at 3.116,7.5 h0.24
  text "G16" at 6.116,2.5 h0.24
  text "B18" at 8.116,7.5 h0.24
  text "J18" at 8.116,0.5 h0.24
  text "M18" at 8.116,-2.5 h0.24
  text "M17" at 7.116,-2.5 h0.24
  text "J17" at 7.116,0.5 h0.24
Mechanical 13:
  lines w0.025: -9.55,-9.5 -9.55,8.5 -8.55,9.5 9.55,9.5 9.55,-9.5 -9.55,-9.5
  text ".Designator" at -0.05,0 h0.8
Mechanical 14:
  lines w0.025: -9.675,-9.625 -9.675,9.625 9.675,9.625 9.675,-9.625 -9.675,-9.625
3D body: height 1, standoff 0, extent -9.563,-9.513 9.563,9.513

## 0603_LED [mm] "0603_LED"
pads (2):
  rect 0.8x0.8 smd: 1(-0.597,0) 2(1.053,0)
via -1.364,0 diameter 0.48 hole 0.25
Top Layer:
  lines w0.127: -1.364,0 -0.597,0
Top Overlay:
  circle w0.2: c-1.252,0 r0.1
Mechanical 9:
  text "1" at -1.212,-0.71 h0.8
  text "2" at 0.488,-0.72 h0.8
Mechanical 13:
  lines w0.025: -0.122,0 0.578,0 ; 0.228,-0.36 0.228,0.35 ; -0.572,-0.4 1.028,-0.4 1.028,0.4 -0.572,0.4 -0.572,-0.4
  text ".Designator" at -0.772,0.5 h0.8
Mechanical 14:
  lines w0.025: -1.452,-0.4 1.453,-0.4 1.453,0.4 -1.452,0.4 -1.452,-0.4

## C42_34_SM [mm] "C42_34_SM"
pads (36):
  rect 2.6x0.74 smd: 1(-2,9.91) 2(2,9.91) 3(-2,8.64) 4(2,8.64) 5(-2,7.37) 6(2,7.37) 7(-2,6.1) 8(2,6.1) 9(-2,4.83) 10(2,4.83) 11(-2,3.56) 12(2,3.56) 13(-2,2.29) 14(2,2.29) 15(-2,1.02) 16(2,1.02) 17(-2,-0.25) 18(2,-0.25) 19(-2,-1.52) 20(2,-1.52) 21(-2,-2.79) 22(2,-2.79) 23(-2,-4.06) 24(2,-4.06) 25(-2,-5.33) 26(2,-5.33) 27(-2,-6.6) 28(2,-6.6) 29(-2,-7.87) 30(2,-7.87) 31(-2,-9.14) 32(2,-9.14) 33(-2,-10.41) 34(2,-10.41)
  round 1 hole 1: " "(0,-9.775) " "(0,9.275)
via -0.332,-1.52 diameter 0.48 hole 0.25
via 7.933,3.254 diameter 0.48 hole 0.25
via 7.933,4.83 diameter 0.48 hole 0.25
via 8.032,7.37 diameter 0.48 hole 0.25
via 7.93,8.64 diameter 0.48 hole 0.25
via 4.223,10.647 diameter 0.48 hole 0.25
via -0.274,-2.79 diameter 0.48 hole 0.25
via -0.332,-4.06 diameter 0.48 hole 0.25
via -0.332,-5.33 diameter 0.48 hole 0.25
via -0.274,-7.87 diameter 0.48 hole 0.25
via 9.065,-8.579 diameter 0.48 hole 0.25
via -2,-12.235 diameter 0.48 hole 0.25
via 0.333,1.02 diameter 0.48 hole 0.25
via 0.333,2.29 diameter 0.48 hole 0.25
Top Layer:
  lines w0.127: -2,-12.235 -2,-10.41 ; -2,-9.14 -0.509,-9.14 0.052,-8.579 9.065,-8.579 ; -2,-7.87 -0.274,-7.87 ; -2,-5.33 -0.332,-5.33 ; -2,-4.06 -0.332,-4.06 ; -2,-2.79 -0.274,-2.79 ; -2,-1.52 -0.332,-1.52 ; 0.333,1.02 2,1.02 ; 0.333,2.29 2,2.29 ; 2,3.56 3.491,3.56 3.797,3.254 7.933,3.254 ; 2,4.83 7.933,4.83 ; 2,7.37 8.032,7.37 ; 2,8.64 7.93,8.64 ; 2,9.91 2,10.52 2.127,10.647 4.223,10.647
Top Overlay:
  lines w0.25: -2.4,-11.15 -2.4,-13.65 2.4,-13.65 2.4,-11.15 ; -2.4,10.65 -2.4,12.55 -1.3,13.65 2.4,13.65 2.4,10.65
Mechanical 9:
  text "34" at 0.73,-11.426 h0.64
  text "32" at 0.73,-10.156 h0.64
  text "18" at 0.73,-1.266 h0.64
  text "3" at -3.27,8.132 h0.64
  text "7" at -3.27,5.592 h0.64
  text "9" at -3.27,4.322 h0.64
  text "28" at 0.73,-7.616 h0.64
  text "5" at -3.27,6.862 h0.64
  text "11" at -3.27,2.544 h0.64
  text "13" at -3.27,1.274 h0.64
  text "15" at -3.27,0.004 h0.64
  text "17" at -3.27,-1.266 h0.64
  text "20" at 0.73,-2.536 h0.64
  text "22" at 0.73,-3.806 h0.64
  text "24" at 0.73,-5.076 h0.64
  text "26" at 0.73,-6.346 h0.64
  text "30" at 0.73,-8.886 h0.64
  text "1" at -3.27,9.402 h0.64
  text "19" at -3.27,-2.536 h0.64
  text "12" at 0.73,2.544 h0.64
  text "10" at 0.73,3.814 h0.64
  text "8" at 0.73,5.592 h0.64
  text "6" at 0.73,6.862 h0.64
  text "4" at 0.73,8.132 h0.64
  text "2" at 0.73,9.402 h0.64
  text "21" at -3.27,-3.806 h0.64
  text "23" at -3.27,-5.076 h0.64
  text "25" at -3.27,-6.346 h0.64
  text "27" at -3.27,-7.616 h0.64
  text "29" at -3.27,-8.886 h0.64
  text "31" at -3.27,-10.156 h0.64
  text "33" at -3.27,-11.426 h0.64
  text "16" at 0.73,0.004 h0.64
  text "14" at 0.73,1.274 h0.64
Mechanical 13:
  lines w0.025: -2.4,-13.65 -2.4,12.55 -1.3,13.65 2.4,13.65 2.4,-13.65 -2.4,-13.65
  text ".Designator" at -0.5,0.25 h0.8
Mechanical 14:
  region: -3.3,-13.775 3.3,-13.775 3.3,13.775 -3.3,13.775
3D body: height 5.6, standoff 0, extent -2.706,-12.544 2.794,12.036

## CAP_0402 [mm] "CAP_0402"
pads (2):
  rect 0.69x0.74 smd: 1(-0.53,0) 2(0.53,0)
Mechanical 9:
  text "2" at 1.52,-0.45 h0.8
  text "1" at 0.37,-0.39 h0.8
Mechanical 13:
  lines w0.025: -0.16,0 0.14,0 ; 0,-0.14 0,0.17 ; -0.5,-0.25 0.5,-0.25 0.5,0.25 -0.5,0.25 -0.5,-0.25
Mechanical 14:
  region: -0.875,-0.37 0.875,-0.37 0.875,0.37 -0.875,0.37

## CAP_0402_VS [mm] "CAP_0402_VS"
pads (2):
  rect 0.69x0.74 smd: 1(-0.53,0) 2(0.53,0)
via -0.5,-0.76 diameter 0.61 hole 0.3
via 0.5,-0.76 diameter 0.61 hole 0.3
Top Layer:
  lines w0.61: -0.53,0 -0.5,-0.03 -0.5,-0.76 ; 0.5,-0.76 0.5,-0.03 0.53,0
Mechanical 9:
  text "1" at -0.27,-1.03 h0.8
  text "2" at 0.88,-1.09 h0.8
Mechanical 13:
  lines w0.025: -0.16,0 0.14,0 ; 0,-0.14 0,0.17 ; -0.5,-0.25 0.5,-0.25 0.5,0.25 -0.5,0.25 -0.5,-0.25
Mechanical 14:
  region: -0.875,-0.37 0.875,-0.37 0.875,0.37 -0.875,0.37

## CAP_0603 [mm] "CAP_0603"
pads (2):
  rect 1.15x1.1 smd: 1(-0.9,0) 2(0.9,0)
Mechanical 9:
  text "1" at -0.26,-0.62 h0.8
  text "2" at 1.54,-0.65 h0.8
Mechanical 13:
  circle w0.025: c-1.64,0 r0.12
  lines w0.025: -0.24,0 0.25,0 ; 0,-0.28 0,0.28 ; -0.8,-0.4 0.8,-0.4 0.8,0.4 -0.8,0.4 -0.8,-0.4
Mechanical 14:
  region: -1.475,-0.55 1.475,-0.55 1.475,0.55 -1.475,0.55

## CAP_0603_VL [mm] "CAP_0603_VL"
pads (2):
  rect 1.15x1.1 smd: 1(-0.375,-0.188) 2(1.425,-0.188)
via -1.382,-0.188 diameter 0.61 hole 0.3
via 2.432,-0.188 diameter 0.61 hole 0.3
Top Layer:
  lines w0.61: -1.382,-0.188 -0.375,-0.188 ; 1.425,-0.188 2.432,-0.188
Mechanical 9:
  text "1" at -0.375,-0.168 h0.8
  text "2" at 1.425,-0.198 h0.8
Mechanical 13:
  circle w0.025: c-1.675,0.412 r0.224
  lines w0.025: -0.045,-0.188 1.065,-0.188 ; 0.525,-0.438 0.525,0.122 ; -0.275,-0.588 1.325,-0.588 1.325,0.212 -0.275,0.212 -0.275,-0.588
Mechanical 14:
  region: -2,-0.738 2,-0.738 2,0.737 -2,0.737

## CAP_1206 [mm] "CAP_1206"
pads (2):
  rect 1.35x1.9 smd: 1(-1.6,-0.01) 2(1.6,-0.01)
Mechanical 9:
  text "1" at -1.36,-1.02 h0.3
  text "2" at 1.84,-1.04 h0.3
Mechanical 13:
  lines w0.025: -0.88,-0.01 0.83,-0.01 ; 0,-0.98 0,0.98 ; -1.6,-0.81 1.6,-0.81 1.6,0.79 -1.6,0.79 -1.6,-0.81
  text "C992" at -1.8,1.09 h0.8
Mechanical 14:
  region: -2.275,-0.98 2.275,-0.98 2.275,0.98 -2.275,0.98

## CAP_1206VL [mm] "CAP_1206VL"
pads (2):
  rect 1.35x1.9 smd: 1(-1.6,-0.01) 2(1.6,-0.01)
via -0.493,0.39 diameter 0.61 hole 0.3
via -0.493,-0.41 diameter 0.61 hole 0.3
via 0.493,0.39 diameter 0.61 hole 0.3
via 0.493,-0.41 diameter 0.61 hole 0.3
Top Layer:
  lines w0.5: -0.493,-0.41 -1.6,-0.41 -1.6,-0.01 -1.6,0.39 -0.493,0.39 ; 0.493,-0.41 1.6,-0.41 1.6,-0.01 1.6,0.39 0.493,0.39
Mechanical 9:
  text "1" at -1.6,-0.38 h0.8
  text "2" at 1.6,-0.4 h0.8
Mechanical 13:
  lines w0.025: -0.88,-0.01 0.83,-0.01 ; 0,-0.98 0,0.98 ; -1.6,-0.81 1.6,-0.81 1.6,0.79 -1.6,0.79 -1.6,-0.81
Mechanical 14:
  region: -2.275,-0.98 2.275,-0.98 2.275,0.98 -2.275,0.98

## CAP_1210VL [mm] "CAP_1210VL"
pads (2):
  rect 1.35x2.8 smd: 1(-1.6,-0.045) 2(1.6,-0.045)
via 0.45,0.655 diameter 0.61 hole 0.3
via 0.45,-0.745 diameter 0.61 hole 0.3
via -0.45,0.655 diameter 0.61 hole 0.3
via -0.45,-0.745 diameter 0.61 hole 0.3
Top Layer:
  lines w0.61: -0.45,-0.745 -1.25,-0.745 -1.6,-0.395 -1.6,-0.045 -1.6,0.251 -1.196,0.655 -0.45,0.655 ; 0.45,-0.745 1.25,-0.745 1.6,-0.395 1.6,-0.045 1.6,0.251 1.196,0.655 0.45,0.655
Mechanical 9:
  text "2" at 0.96,-1.545 h0.8
  text "1" at -2.24,-1.525 h0.8
Mechanical 13:
  lines w0.025: -0.83,-0.045 0.8,-0.045 ; 0,-1.485 0,1.485 ; -1.6,-1.295 -1.6,1.205 1.6,1.205 1.6,-1.295 -1.6,-1.295
Mechanical 14:
  lines w0.025: -2.275,-1.485 -2.275,1.485 2.275,1.485 2.275,-1.485 -2.275,-1.485

## DIN41612_32 [mm] "DIN41612_32"
pads (34):
  round 2.8 / inner round 3 / far side round 2.8 hole 2.8: " "(4.23,-24.13) " "(4.23,24.13)
  round 2 hole 1: A1(1.69,19.05) A2(1.69,16.51) A3(1.69,13.97) A4(1.69,11.43) A5(1.69,8.89) A6(1.69,6.35) A7(1.69,3.81) A8(1.69,1.27) A9(1.69,-1.27) A10(1.69,-3.81) A11(1.69,-6.35) A12(1.69,-8.89) A13(1.69,-11.43) A14(1.69,-13.97) A15(1.69,-16.51) A16(1.69,-19.05) C1(-3.39,19.05) C2(-3.39,16.51) C3(-3.39,13.97) C4(-3.39,11.43) C5(-3.39,8.89) C6(-3.39,6.35) C7(-3.39,3.81) C8(-3.39,1.27) C9(-3.39,-1.27) C10(-3.39,-3.81) C11(-3.39,-6.35) C12(-3.39,-8.89) C13(-3.39,-11.43) C14(-3.39,-13.97) C15(-3.39,-16.51) C16(-3.39,-19.05)
Top Overlay:
  lines w0.2: -7,-27 7.112,-27 7.112,27 -7,27 -7,-27
Mechanical 9:
  text "C3" at -5.94,13.97 h0.8
  text "A3" at -0.86,13.97 h0.8
  text "A1" at -0.86,19.05 h0.8
  text "C2" at -5.94,16.51 h0.8
  text "A2" at -0.86,16.51 h0.8
  text "C16" at -6.58,-19.05 h0.8
  text "C15" at -6.58,-16.51 h0.8
  text "C14" at -6.58,-13.97 h0.8
  text "C13" at -6.58,-11.43 h0.8
  text "C12" at -6.58,-8.89 h0.8
  text "C11" at -6.58,-6.35 h0.8
  text "C10" at -6.58,-3.81 h0.8
  text "C9" at -5.94,-1.27 h0.8
  text "C1" at -5.94,19.05 h0.8
  text "A8" at -0.86,1.27 h0.8
  text "C8" at -5.94,1.27 h0.8
  text "C4" at -5.94,11.43 h0.8
  text "A16" at -1.5,-19.05 h0.8
  text "A15" at -1.5,-16.51 h0.8
  text "A14" at -1.5,-13.97 h0.8
  text "A13" at -1.5,-11.43 h0.8
  text "A12" at -1.5,-8.89 h0.8
  text "A11" at -1.5,-6.35 h0.8
  text "A10" at -1.5,-3.81 h0.8
  text "A9" at -0.86,-1.27 h0.8
  text "C6" at -5.94,6.35 h0.8
  text "A6" at -0.86,6.35 h0.8
  text "A4" at -0.86,11.43 h0.8
  text "C5" at -5.94,8.89 h0.8
  text "A5" at -0.86,8.89 h0.8
  text "C7" at -5.94,3.81 h0.8
  text "A7" at -0.86,3.81 h0.8
Mechanical 13:
  lines w0.025: -3.37,0 1.67,0 ; -0.85,-3.95 -0.85,3.88 ; 2.12,-24.13 6.11,-24.13 ; 4.23,-26.42 4.23,-22.06 ; -6.98,-27.01 6.99,-27.01 6.99,27 -6.98,27 -6.98,-27.01
  text ".Designator" at -0.01,1.02 h0.8
Mechanical 14:
  lines w0.025: -7.1,-27.1 7.1,-27.1 7.1,27.1 -7.1,27.1 -7.1,-27.1
Multi-Layer:
  pour cut-out: 7.493,-25.308 7.493,28.702 -6.477,28.702 -6.477,-25.318 -6.467,-25.308
  lines w0.025: 2.55,-25.8 5.85,-25.8 5.85,-22.5 2.55,-22.5 2.55,-25.8 ; 2.55,22.5 5.85,22.5 5.85,25.8 2.55,25.8 2.55,22.5 ; 3.595,-24.765 4.865,-24.765 4.865,-23.495 3.595,-23.495 3.595,-24.765 ; 3.595,23.495 4.865,23.495 4.865,24.765 3.595,24.765 3.595,23.495
3D body: height 9.45, standoff -2.9, extent -3.804,-26.54 14.218,26.67

## FB_0603 [mm] "FB_0603"
pads (2):
  rect 1.15x1.1 smd: 1(-0.9,0) 2(0.9,0)
Mechanical 9:
  text "1" at -0.26,-0.62 h0.8
  text "2" at 1.54,-0.65 h0.8
Mechanical 13:
  lines w0.025: -0.8,-0.4 -0.8,0.4 0.8,0.4 0.8,-0.4 -0.8,-0.4
Mechanical 14:
  region: -1.475,-0.55 1.475,-0.55 1.475,0.55 -1.475,0.55